# Altium schematic symbol library PHY_Demo.SCHLIB: 10 symbols
Pins are listed as number, name and electrical type; pins without a type are passive.

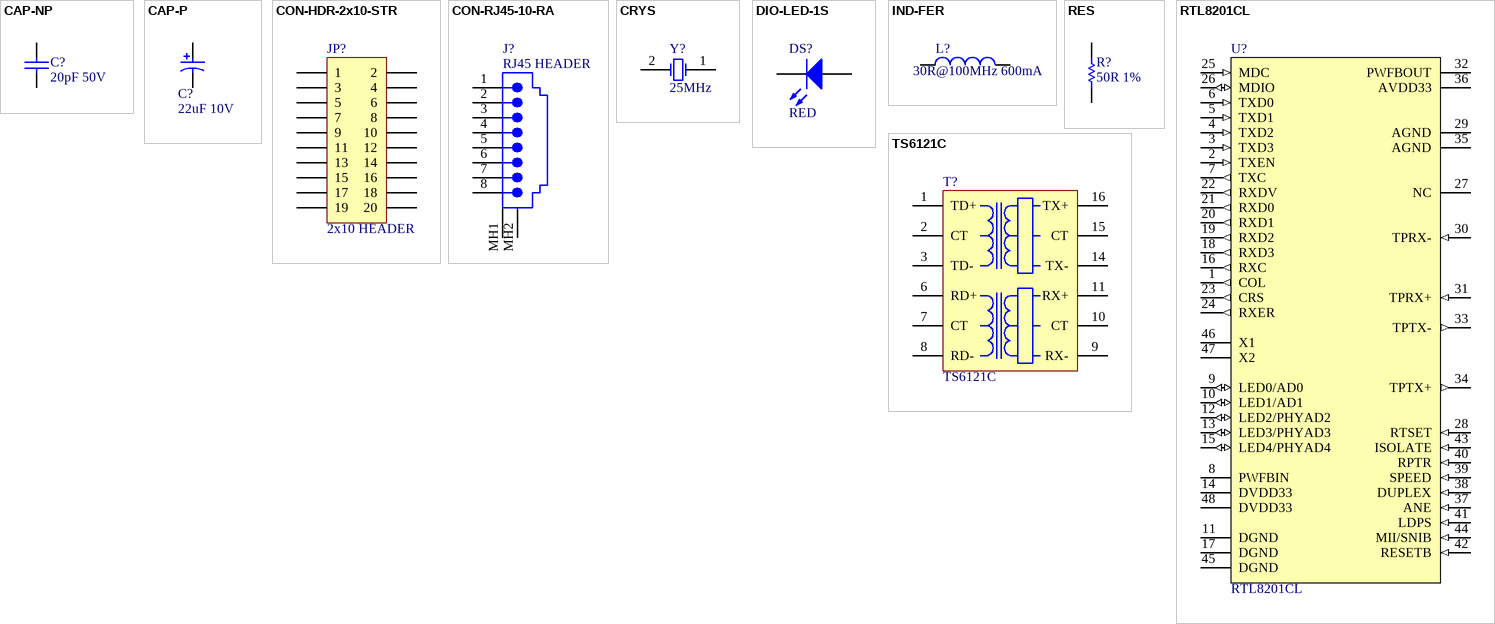
[diagram p0: symbols CAP-NP to TS6121C]

## CAP-NP
designator C?, comment 20pF 50V
Capacitor; Design Item Id: CAP-NP-20pF-50V-0805
footprint CAPC2012
pins: 1, 2

## CAP-P
designator C?, comment 22uF 10V
Polar Capacitor; Design Item Id: CAP-P-22uF-10V-MCCT-B
footprint CAPC3528
pins: 1, 2

## CON-HDR-2x10-STR
designator JP?, comment 2x10 HEADER
Header, 10-Pin, Dual row; Design Item Id: CON-HDRSTR-10x2-2.54mm
footprint HDR2X10
pins: 1, 2, 3, 4, 5, 6, 7, 8, 9, 10, 11, 12, 13, 14, 15, 16, 17, 18, 19, 20

## CON-RJ45-10-RA
designator J?, comment RJ45 HEADER
Right Angle, Standard Profile, External Shield PCB Jack; Design Item Id: CON-RA-RJ45-95122-2881
footprint 95122-2881
pins: 1, 2, 3, 4, 5, 6, 7, 8, MH1 Shield, MH2 Shield

## CRYS
designator Y?, comment 25MHz
Surface Mount Crystal; Design Item Id: CRYS-25MHz-QC49
footprint XTAL_HC49SMD 20Mhz  +/-30ppm 20pf
pins: 1 OSC1, 2 OSC2

## DIO-LED-1S
designator DS?, comment RED
Typical GREEN SMD LED Agilent make; Design Item Id: LED-RED-HSMHC170
footprint LED2013
pins: 1 A, 2 K

## IND-FER
designator L?, comment 30R@100MHz 600mA
Ferrite Bead; Design Item Id: IND-FER-30R@100MHz-600mA
footprint INDC2012
pins: 1, 2

## RES
designator R?, comment 50R 1%
Resistor; Design Item Id: RES-50R-1%-0805
footprint RESC2012
pins: 1, 2

## RTL8201CL
designator U?
Realtek Ethernet PHY tranceiver; Design Item Id: RTL8201CL
footprint TSQFP50P900X900-48
pins: 1 COL (out), 2 TXEN (in), 3 TXD3 (in), 4 TXD2 (in), 5 TXD1 (in), 6 TXD0 (in), 7 TXC (out), 8 PWFBIN (power), 9 LED0/AD0 (io), 10 LED1/AD1 (io), 11 DGND (power), 12 LED2/PHYAD2 (io), 13 LED3/PHYAD3 (io), 14 DVDD33 (power), 15 LED4/PHYAD4 (io), 16 RXC (out), 17 DGND (power), 18 RXD3 (out), 19 RXD2 (out), 20 RXD1 (out), 21 RXD0 (out), 22 RXDV (out), 23 CRS (out), 24 RXER (out), 25 MDC (in), 26 MDIO (io), 27 NC, 28 RTSET (in), 29 AGND (power), 30 TPRX- (in), 31 TPRX+ (in), 32 PWFBOUT (power), 33 TPTX- (out), 34 TPTX+ (out), 35 AGND (power), 36 AVDD33 (power), 37 ANE (in), 38 DUPLEX (in), 39 SPEED (in), 40 RPTR (in), 41 LDPS (in), 42 RESETB (in), 43 ISOLATE (in), 44 MII/SNIB (in), 45 DGND (power), 46 X1, 47 X2, 48 DVDD33 (power)

## TS6121C
designator T?
Bothhand 10/100 BaseT Pulse Transformer; Design Item Id: TS6121C
footprint SOIC127P910-16
pins: 1 TD+, 2 CT, 3 TD-, 6 RD+, 7 CT, 8 RD-, 9 RX-, 10 CT, 11 RX+, 14 TX-, 15 CT, 16 TX+